# Altium footprint library 晶振.PCBLIB: 4 footprints
Each footprint in its own frame and in the unit in brackets; x right, y up, seen from the top. Pads: shape width x height; smd on the part's side, far side on the other; paste and mask are expansions set on the pad; w line width, h text height; cw(c..) or ccw(c..) is an arc to the next point about the centre after c.
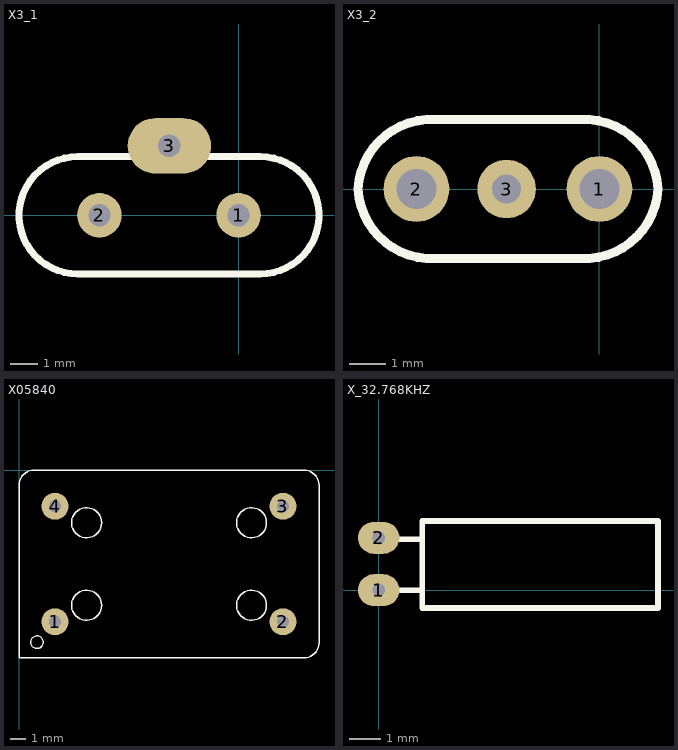
[diagram p0: the footprints below, top view; thin cyan lines are the x and y axes]

## X3_1 [mm]
pads (3):
  round 1.6 hole 0.8: 1(0,0) 2(-5.004,0)
  oval 3x2 hole 0.8: 3(-2.489,2.5)
TopOverlay:
  lines w0.254: -5.791,-2.108 cw(c-5.791,0) -5.791,2.108 0.787,2.108 cw(c0.787,0) 0.787,-2.108 -5.791,-2.108

## X3_2 [mm]
pads (3):
  round 1.8 hole 1.1: 1(0,0) 2(-5.004,0)
  round 1.6 hole 0.8: 3(-2.54,0)
TopOverlay:
  circle w0.8: c0,0 r0
  circle w0.8: c-5.004,0 r0
  lines w0.25: -4.491,-1.9 cw(c-4.596,0.104) -6.6,0 cw(c-4.596,-0.104) -4.491,1.9 ; -0.513,-1.9 ccw(c-0.406,0.106) 1.6,0 ccw(c-0.406,-0.106) -0.513,1.9
  lines w0.254: -4.491,-1.9 -0.513,-1.9 ; -4.491,1.9 -0.513,1.9

## X05840 [mm]
pads (4):
  round 1.8 hole 0.8: 1(2.4,-10.1) 2(17.6,-10.1) 3(17.6,-2.4) 4(2.4,-2.4)
TopOverlay:
  circle w0.1: c1.198,-11.46 r0.422
  circle w0.1: c4.5,-9 r1
  circle w0.1: c15.5,-9 r1
  circle w0.1: c4.5,-3.5 r1
  circle w0.1: c15.5,-3.5 r1
  lines w0.1: 0,-12.5 19,-12.5 ccw(c19,-11.5) 20,-11.5 20,-1 ccw(c19,-1) 19,0 1,0 ccw(c1,-1) 0,-1 0,-12.5

## X_32.768KHZ [mm]
pads (2):
  oval 1.3x1 hole 0.4: 1(0,0) 2(0,1.64)
TopOverlay:
  lines w0.178: 0.508,1.6 1.37,1.6 ; 0.58,0 1.37,-0.01 ; 1.37,-0.56 8.77,-0.56 8.77,2.17 1.37,2.17 1.37,-0.56